# Altium footprint library PcbLib_IC.PcbLib: 42 footprints (part 1 of 3)
Each footprint in its own frame and in the unit in brackets; x right, y up, seen from the top. Pads: shape width x height; smd on the part's side, far side on the other; paste and mask are expansions set on the pad; w line width, h text height; cw(c..) or ccw(c..) is an arc to the next point about the centre after c.
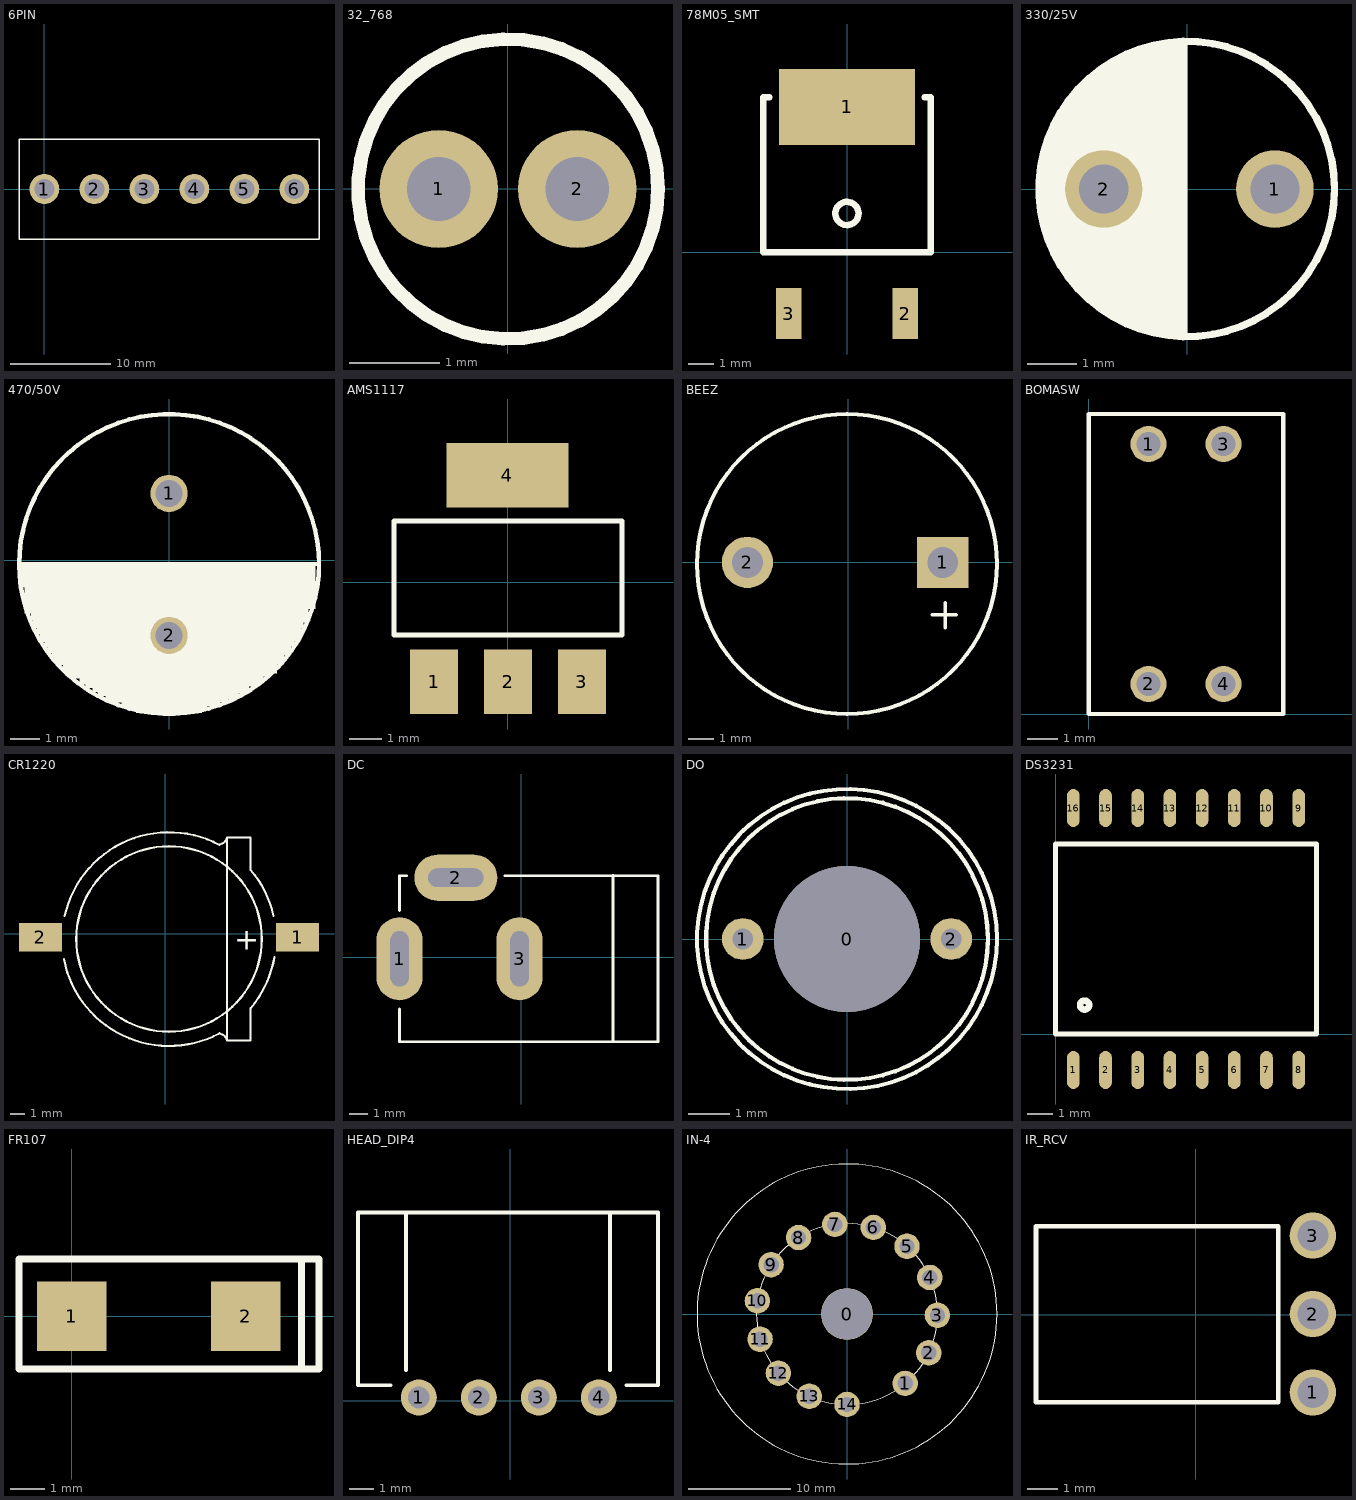
[diagram p0: the footprints below, top view; thin cyan lines are the x and y axes]

## 6PIN [mm]
pads (6):
  round 3 hole 2: 1(0.037,0) 2(5.037,0) 3(10.037,0) 4(15.037,0) 5(20.037,0) 6(25.037,0)
Top Overlay:
  lines w0.15: -2.5,-5 27.5,-5 27.5,5 -2.5,5 -2.5,-5

## 32_768 [mm]
pads (2):
  round 1.3 hole 0.7: 1(-0.762,0) 2(0.762,0)
Top Overlay:
  circle w0.15: c0,0 r1.651

## 78M05_SMT [mm]
pads (3):
  rect 5.34x3 smd: 1(0,5.715)
  rect 1x2 smd: 2(2.286,-2.413) 3(-2.286,-2.413)
Top Overlay:
  circle w0.254: c0,1.524 r0.458
  lines w0.254: -3.048,6.1 -3.3,6.1 -3.3,0 3.3,0 3.3,6.1 3.048,6.1

## 330/25V [mil]
pads (2):
  round 62 hole 39.37: 1(70,0) 2(-67,0)
Top Overlay:
  circle w5.91: c-0.47,0 r118.14
  region: 0,120 -50,110 -90,80 -110,40 -120,0 -110,-45 -85,-80 -50,-110 0,-120

## 470/50V [mil]
pads (2):
  round 50 hole 36: 1(0.1,89.6) 2(0.1,-100.56)
Top Overlay:
  circle w5.91: c0.1,-4.89 r200.79
  rectangle: -63.67,-195.21 -42.67,-188.21
  rectangle: -43.9,-204.4 -1.9,-177.4
  rectangle: -84.9,-190.4 -8.9,-179.4
  rectangle: 68.1,-189.4 79.1,-178.4
  rectangle: 43.33,-199.21 51.33,-195.21
  rectangle: 43.33,-195.21 68.33,-178.21
  rectangle: -10.9,-204.4 44.1,-164.4
  rectangle: -102.67,-176.21 -92.67,-171.21
  rectangle: -111.67,-171.21 -92.67,-166.21
  rectangle: -119.67,-166.21 -92.67,-155.21
  rectangle: -92.9,-181.4 29.1,-155.4
  rectangle: -139.09,-146.17 -136.09,-140.17
  rectangle: 125.33,-151.21 144.33,-129.21
  rectangle: 118.33,-165.21 126.33,-147.21
  rectangle: 107.33,-169.21 118.33,-147.21
  rectangle: 93.1,-178.4 107.1,-147.4
  rectangle: 30.1,-185.4 93.1,-147.4
  rectangle: -125.9,-155.4 132.1,-154.4
  rectangle: -138.67,-155.21 132.33,-146.21
  rectangle: -149.9,-140.4 -135.9,-134.4
  rectangle: -156.9,-134.4 -135.9,-124.4
  rectangle: -138.67,-146.21 133.33,-118.21
  rectangle: 85.33,-139.21 154.33,-126.21
  rectangle: 124.33,-127.21 163.33,-124.21
  rectangle: 163.33,-115.21 168.33,-108.21
  rectangle: 163.33,-108.21 174.33,-99.21
  rectangle: 163.33,-99.21 177.33,-91.21
  rectangle: 170.1,-83.4 187.1,-73.4
  rectangle: 163.33,-91.21 180.33,-81.21
  rectangle: 177.1,-73.4 187.1,-71.4
  rectangle: 163.1,-81.4 184.1,-60.4
  rectangle: -156.9,-124.4 163.1,-60.4
  rectangle: -161.9,-124.4 -156.9,-116.4
  rectangle: -166.9,-116.4 -156.9,-109.4
  rectangle: -172.9,-109.4 -156.9,-99.4
  rectangle: -176.9,-99.4 -156.9,-90.4
  rectangle: -181.9,-90.4 -156.9,-80.4
  rectangle: -184.9,-80.4 -156.9,-69.4
  rectangle: -147.9,-71.4 187.1,-63.4
  rectangle: -193.67,-71.21 -147.67,-65.21
  rectangle: -200.6,-36.17 -189.09,-28.17
  rectangle: -193.9,-36.4 -188.9,-28.4
  rectangle: -193.67,-65.21 196.33,-28.21
  rectangle: -200.41,-28.4 196.1,-4.89
  lines w5.91: -200.9,-4.4 -200.41,-4.89 0.1,-4.89 200.89,-4.89 ; -138.9,-146.4 -138.9,-140.4 ; -125.9,-155.4 29.1,-155.4 29.1,-163.4 28.1,-164.4 ; -92.9,-176.4 -87.9,-176.4 ; -54.9,-195.4 -42.9,-195.4

## AMS1117 [mil]
pads (4):
  rect 59x79 smd: 1(-90.45,-122.25) 2(0.1,-122.25) 3(90.65,-122.25)
  rect 150x79 smd: 4(-0.57,131.29)
Top Overlay:
  lines w5.91: -139.9,-65 140.1,-65 140.1,75 -139.9,75 -139.9,-65

## BEEZ [mm]
pads (2):
  rect 2x2 hole 1.2: 1(3.686,0)
  round 2 hole 1.2: 2(-3.934,0)
Top Overlay:
  circle w0.15: c-0.048,-0.063 r5.856
  lines w0.15: 3.279,-2.044 4.219,-2.044 ; 3.787,-2.552 3.787,-1.587

## BOMASW [mm]
pads (4):
  round 1.2 hole 0.8: 1(2,9) 2(2,1) 3(4.5,9) 4(4.5,1)
Top Overlay:
  lines w0.15: 0,0 6.5,0 6.5,10 0,10 0,0

## CR1220 [mm]
pads (2):
  rect 3x2 smd: 1(9.271,-0.254) 2(-8.763,-0.254)
Top Overlay:
  circle w0.15: c0.254,-0.381 r6.5
  lines w0.15: -7.115,-1.779 ccw(c0.254,-0.381) 3.796,-6.992 ; -7.063,1.231 cw(c0.259,-0.394) 3.791,6.222 ; 3.806,-7.012 cw(c3.72,-7.617) 4.318,-7.493 ; 3.806,6.25 ccw(c3.72,6.855) 4.318,6.731 ; 5.969,-5.22 5.969,-7.493 4.318,-7.493 ; 5.969,4.455 5.969,6.731 4.318,6.731 ; 5.981,4.455 cw(c0.259,-0.394) 7.58,1.233 ; 5.984,-5.22 ccw(c0.254,-0.381) 7.649,-1.634 ; 4.318,-7.493 4.318,6.731
  text "+" at 4.826,-1.143 h1.52

## DC [mm]
pads (3):
  oval 2.5x4.5 hole 1 slot 3 at 90 deg: 1(-6.604,-0.072) 3(-0.104,-0.072)
  oval 4.5x2.5 hole 1 slot 3 at 0 deg: 2(-3.556,4.318)
Top Overlay:
  lines w0.15: -6.604,-2.794 -6.604,-4.572 7.396,-4.572 7.396,4.428 -0.889,4.428 ; -6.604,2.54 -6.604,4.428 -6.223,4.428 ; 4.953,-4.572 4.953,4.445

## DO [mm]
pads (3):
  round 3.5 hole 3.5: 0(0,0)
  round 1 hole 0.5: 1(-2.5,0) 2(2.5,0)
Top Overlay:
  circle w0.1: c0,0 r3.38
  circle w0.1: c0,0 r3.6

## DS3231 [mm]
pads (16):
  oval 0.5x1.5 smd: 1(0.7,-1.42) 2(1.97,-1.42) 3(3.24,-1.42) 4(4.51,-1.42) 5(5.78,-1.42) 6(7.05,-1.42) 7(8.32,-1.42) 8(9.59,-1.42) 9(9.59,8.92) 10(8.32,8.92) 11(7.05,8.92) 12(5.78,8.92) 13(4.51,8.92) 14(3.24,8.92) 15(1.97,8.92) 16(0.7,8.92)
Top Overlay:
  circle w0.254: c1.143,1.143 r0.18
  lines w0.2: 0,0 10.29,0 10.29,7.5 0,7.5 0,0

## FR107 [mm]
pads (2):
  rect 2x2 smd: 1(0,0) 2(5,0)
Top Overlay:
  lines w0.2: 6.604,-1.524 -1.524,-1.524 -1.524,1.651 6.604,1.651 ; 6.604,-1.524 6.604,1.651 ; 6.604,-1.524 7.112,-1.524 7.112,1.651 6.604,1.651

## HEAD_DIP4 [mm]
pads (4):
  round 1.5 hole 0.9: 1(-3.817,0.127) 2(-1.317,0.127) 3(1.183,0.127) 4(3.683,0.127)
Top Overlay:
  lines w0.15: -4.985,0.635 -6.35,0.635 -6.35,7.835 6.15,7.835 6.15,0.635 4.826,0.635 ; -4.35,1.27 -4.35,7.835 ; 4.15,1.27 4.15,7.835

## IN-4 [mm]
pads (15):
  round 5.1 hole 5: 0(0,0)
  round 2.5 hole 1.5: 1(5.72,-6.82) 2(8.04,-3.82) 3(8.89,-0.12) 4(8.14,3.59) 5(5.9,6.66) 6(2.59,8.51) 7(-1.2,8.81) 8(-4.76,7.52) 9(-7.46,4.85) 10(-8.81,1.3) 11(-8.55,-2.48) 12(-6.75,-5.82) 13(-3.71,-8.09) 14(0,-8.89)
Top Overlay:
  circle w0.1: c0,0 r14.75
  circle w0.1: c0,0 r8.9

## IR_RCV [mm]
pads (3):
  round 1.5 hole 1: 1(3.785,-2.515) 2(3.785,0.025) 3(3.785,2.565)
Top Overlay:
  lines w0.15: -5.182,-2.83 -5.182,2.87 2.667,2.87 2.667,-2.83 -5.182,-2.83